# Altium footprint library RotarySwitch.PcbLib: 1 footprints
Each footprint in its own frame and in the unit in brackets; x right, y up, seen from the top. Pads: shape width x height; smd on the part's side, far side on the other; paste and mask are expansions set on the pad; w line width, h text height; cw(c..) or ccw(c..) is an arc to the next point about the centre after c.
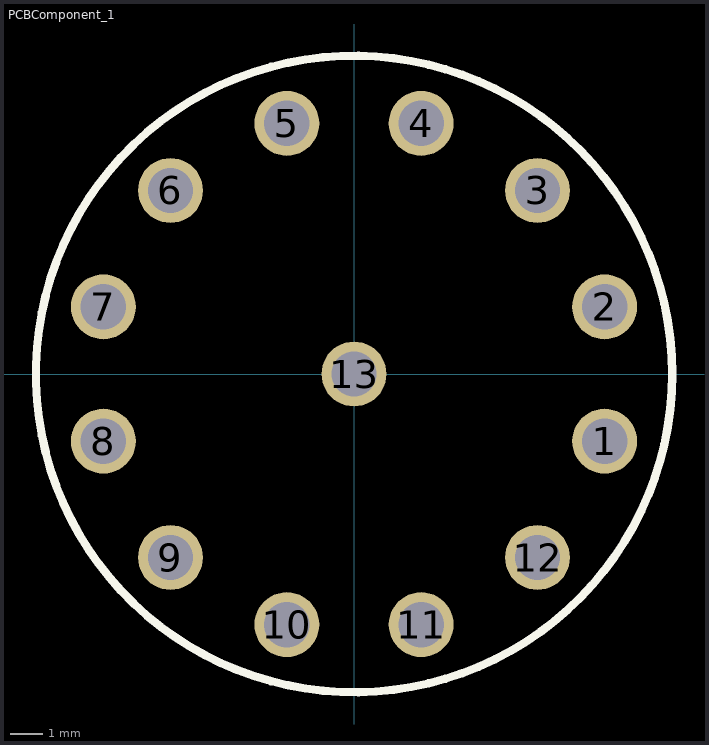
[diagram p0: the footprint, top view; thin cyan lines are the x and y axes]

## PCBComponent_1 [mm]
pads (13):
  round 2 hole 1.4: 1(7.727,-2.071) 2(7.727,2.071) 3(5.657,5.657) 4(2.071,7.727) 5(-2.071,7.727) 6(-5.657,5.657) 7(-7.727,2.071) 8(-7.727,-2.071) 9(-5.657,-5.657) 10(-2.071,-7.727) 11(2.071,-7.727) 12(5.657,-5.657) 13(0,0)
Top Overlay:
  circle w0.254: c0,0 r9.808